# EAGLE library part TMC2209 (library borkedlabs-powerics)
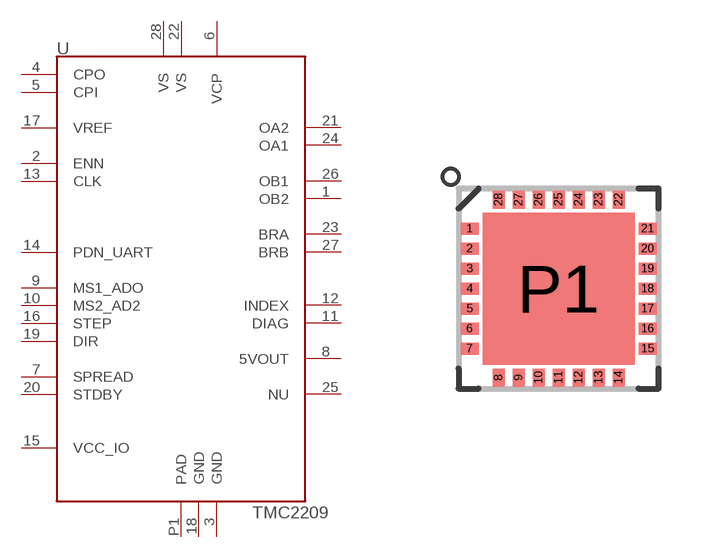
[diagram p15: symbol with the pads of QFN28-5X5-XLEP; footprint QFN28-5X5-XLEP]

Designator prefix U

## TMC2209-LA (MPN: TMC2209-LA; PACKAGE: QFN28-5x5)  [QFN28-5X5-XLEP]
1  OB2
2  ENN
3  GND
4  CPO
5  CPI
6  VCP
7  SPREAD
8  5VOUT
9  MS1_ADO
10  MS2_AD2
11  DIAG
12  INDEX
13  CLK
14  PDN_UART
15  VCC_IO
16  STEP
17  VREF
18  GND
19  DIR
20  STDBY
21  OA2
22  VS
23  BRA
24  OA1
25  NU
26  OB1
27  BRB
28  VS
P1  PAD

## Footprint QFN28-5X5-XLEP (pad centres in mm)
Intended for the TMC2209 which has a larger pad for better thermal while shrinking the pad lengths
smd 0.45 x 0.3: 1 -2.225,1.5; 2 -2.225,1; 3 -2.225,0.5; 4 -2.225,0; 5 -2.225,-0.5; 6 -2.225,-1; 7 -2.225,-1.5; 15 2.225,-1.5; 16 2.225,-1; 17 2.225,-0.5; 18 2.225,0; 19 2.225,0.5; 20 2.225,1; 21 2.225,1.5
smd 0.3 x 0.45: 8 -1.5,-2.225; 9 -1,-2.225; 10 -0.5,-2.225; 11 0,-2.225; 12 0.5,-2.225; 13 1,-2.225; 14 1.5,-2.225; 22 1.5,2.225; 23 1,2.225; 24 0.5,2.225; 25 0,2.225; 26 -0.5,2.225; 27 -1,2.225; 28 -1.5,2.225
smd 3.8 x 3.8: P1 0,0